# EAGLE library part 691414720003 (library Wurth_Terminal_Blocks_Connectors_rev15d)
WR-TBL Terminal block - serie 4147 5,00mm - Spring clamp/Screwless - 45° entry - 03p Code:Con_TBL_Screwless_5.00_6914147200xx_691414720003 <http://katalog.we-online.de/media/images/eican/Con_TBL_Screwless_5.00_6914147200xx_pf2.jpg> Details see: http://katalog.we-online.de/en/em/691_414_720_0xxB/691_414_720_003B?m Created 2014-12-22, aslant tao 2014 (C) Würth Elektronik
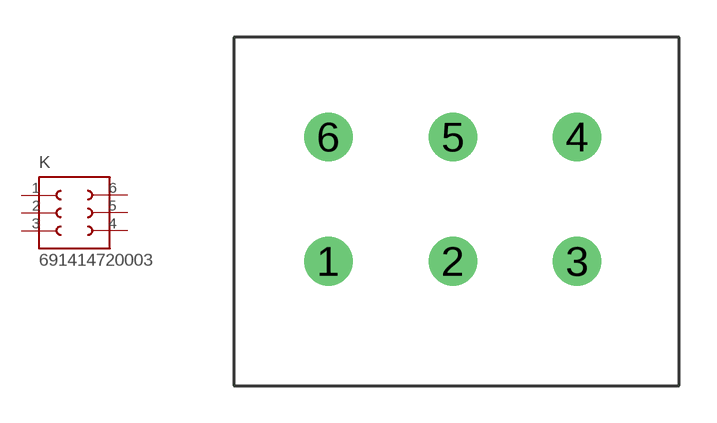
[diagram p254: symbol with the pads of 691414720003; footprint 691414720003]

Designator prefix K

## 691414720003  [691414720003]
1  1  pas
2  2  pas
3  3  pas
4  4  pas
5  5  pas
6  6  pas

## Footprint 691414720003 (pad centres in mm)
WR-TBL Serie 4147 - 5.0mm Screwless 45° Entry - 3 mm2 Wires, 3 Pins
drill 1.3: 1 -10,0; 2 -5,0; 3 0,0; 4 0,5; 5 -5,5; 6 -10,5